# EAGLE library part 90130-1?12 (library con-molex-c-grid)
C-Grid III
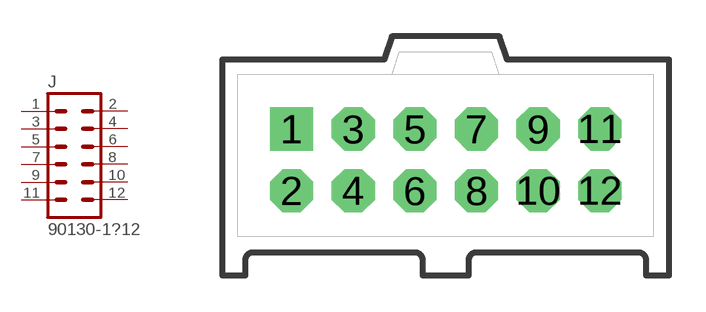
[diagram p83: symbol with the pads of 90130-1?12; footprint 90130-1?12]

Designator prefix J

## 90130-112  [90130-1?12]
1  1  pas
2  2  pas
3  3  pas
4  4  pas
5  5  pas
6  6  pas
7  7  pas
8  8  pas
9  9  pas
10  10  pas
11  11  pas
12  12  pas

## Footprint 90130-1?12 (pad centres in mm)
C-Grid III vertical, dual row
drill 1.016 pad 1.778 square: 1 -6.35,1.27
drill 1.016 pad 1.778 octagon: 2 -6.35,-1.27; 3 -3.81,1.27; 4 -3.81,-1.27; 5 -1.27,1.27; 6 -1.27,-1.27; 7 1.27,1.27; 8 1.27,-1.27; 9 3.81,1.27; 10 3.81,-1.27; 11 6.35,1.27; 12 6.35,-1.27